# Altium schematic symbol library NG2092.SchLib: 31 symbols (part 1 of 2)
Pins are listed as number, name and electrical type; pins without a type are passive.

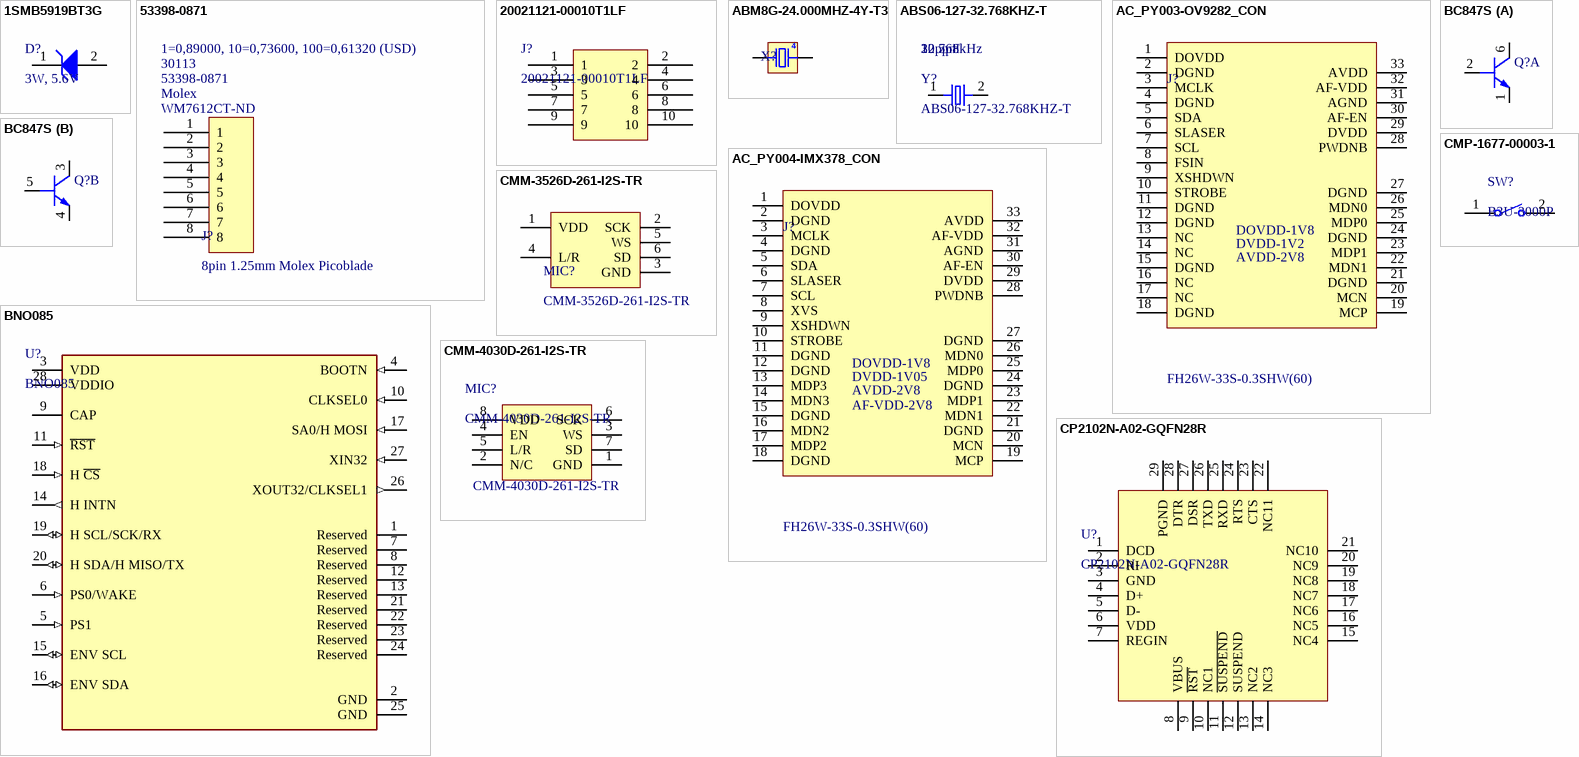
[diagram p0: symbols 1SMB5919BT3G to CP2102N-A02-GQFN28R]

## 1SMB5919BT3G
designator D?, comment 3W, 5.6V
DIODE ZENER 5.6V 3W SMB; Manufacturer 1: ON Semiconductor; Manufacturer Part Number 1: 1SMB5919BT3G; Material: Plastic; Tolerance: 5%; Max Reverse Leakage Current: 5uA; Impedance: 2R; Element Configuration: Single; Forward Voltage: 1.5V; Power Dissipation: 550mW; Zener Current: 267mA; Test Current: 66.9mA; Breakdown Voltage: 5.88V; ESD Protection: Yes; Supplier 1: Digi-Key; RoHS: Yes; Category: Zener Diodes; Stock 1: 59012; Pricing 1: 2500=0.08908, 5000=0.08384, 12500=0.07860, 25000=0.07598, 62500=0.07074 (USD); Case/Package: SMB; Number of Pins: 2; Contact Plating: Tin,Matte; Min Operating Temperature: -65°C; Max Operating Temperature: 150°C; Package Quantity: 1; Packaging: Tape and Reel; Max Power Dissipation: 3W; Voltage Tolerance: 5%; Zener Voltage: 5.6V; Working Voltage: 5.6V; Peak Reverse Current: 5uA; Voltage Rating (DC): 5.6V; Power Rating: 3W; Height: 2.13mm; Width: 3.56mm; Radiation Hardening: No; Lead Free: Lead Free; Halogen Free: Halogen Free; REACH SVHC: No SVHC; ComponentLink1URL: https://datasheet.ciiva.com/27747/1308331-27747654.pdf?src-supplier=Jameco; ComponentLink1Description: https://datasheet.ciiva.com/27747/1308331-27747654.pdf?src-supplier=Jameco; ComponentLink2URL: https://datasheet.ciiva.com/1182/1smb5913bt3-d-1182657.pdf?src-supplier=Element14; ComponentLink2Description: https://datasheet.ciiva.com/1182/1smb5913bt3-d-1182657.pdf?src-supplier=Element14; ComponentLink3URL: https://datasheet.ciiva.com/1182/1smb5913bt3-d-1182658.pdf?src-supplier=Element14; ComponentLink3Description: https://datasheet.ciiva.com/1182/1smb5913bt3-d-1182658.pdf?src-supplier=Element14; ComponentLink4URL: https://datasheet.ciiva.com/895/1smb5913bt3-d-895203.pdf?src-supplier=Digi-Key; ComponentLink4Description: https://datasheet.ciiva.com/895/1smb5913bt3-d-895203.pdf?src-supplier=Digi-Key; ComponentLink5URL: https://datasheet.ciiva.com/895/1smb5913bt3-d-895204.pdf?src-supplier=Digi-Key; ComponentLink5Description: https://datasheet.ciiva.com/895/1smb5913bt3-d-895204.pdf?src-supplier=Digi-Key; ComponentLink6URL: https://datasheet.ciiva.com/895/1smb5913bt3-d-895205.pdf?src-supplier=Digi-Key; ComponentLink6Description: https://datasheet.ciiva.com/895/1smb5913bt3-d-895205.pdf?src-supplier=Digi-Key; ComponentLink7URL: https://datasheet.ciiva.com/15198/getdatasheetpartid-311040-15198695.pdf?src-supplier=Verical; ComponentLink7Description: https://datasheet.ciiva.com/15198/getdatasheetpartid-311040-15198695.pdf?src-supplier=Verical; ComponentLink8URL: https://datasheet.ciiva.com/16311/1smb5913bt3-d-16311847.pdf?src-supplier=Future+Electronics; ComponentLink8Description: https://datasheet.ciiva.com/16311/1smb5913bt3-d-16311847.pdf?src-supplier=Future+Electronics; ComponentLink9URL: https://datasheet.ciiva.com/16472/1smb5913bt3-d-16472779.pdf?src-supplier=Avnet+Asia; ComponentLink9Description: https://datasheet.ciiva.com/16472/1smb5913bt3-d-16472779.pdf?src-supplier=Avnet+Asia; Supplier 2: Avnet; Supplier 3: Newark; Supplier 4: LCSC; Supplier 5: Avnet Europe; Supplier Part Number 1: 1SMB5919BT3GOSTR-ND; Supplier Part Number 3: 67R1406; Supplier Part Number 4: C70260; Supplier Part Number 5: 1SMB5919BT3G; Supplier Part Number 2: 1SMB5919BT3G
footprint 1SMB5919BT3G (Molded, 2-Leads, Body 4.6x3.95mm)
pins: 1 K, 2 A

## 53398-0871
designator J?, comment 8pin 1.25mm Molex Picoblade  Supplier Part Number 1: WM7612CT-ND  Manufacturer 1: Molex  Manufacturer Part Number 1: 53398-0871  Stock 1: 30113  Pricing 1: 1=0,89000, 10=0,73600, 100=0,61320 (USD)
CONN HEADER VERT 8POS 1.25MM  Connector Header SMD 8 position 0.049" (1.25mm); Connector Type: BOARD CONNECTOR; Option: General Purpose; Filter Feature: No; Mating Information: MULTIPLE MATING PARTS AVAILABLE; Number of Rows Loaded: 1; Number of Contacts: 8; Body/Shell Style: RECEPTACLE; Contact Pattern: RECTANGULAR; Contact Resistance: 20mR; Contact Style: Blade Pin; Dielectric Withstanding Voltage (AC): 250V; Insulation Resistance: 100MR; Polarization Key: POLARIZED HOUSING; Rated Current (Signal): 1A; Board Mounting Option: SOLDER HOLDING POSTS; Durability: 30Cycles; Body Breadth: 0.146inch; Body Depth: 0.185inch; Body Length: 0.581inch; Mating Contact Pitch: 0.049inch; Mounting Option 1: LOCKING; Plating Thickness: 39uin; Reference Standard: UL; Reliability: COMMERCIAL; Supplier 1: Digi-Key; RoHS: Yes; Category: Headers and Wire Housings; Mount: Board; Contact Finish - Mating: MATTE TIN (39) OVER NICKEL; Contact Finish - Termination: Matte Tin (Sn) - with Nickel (Ni) barrier; Insulation Material: Nylon; Contact Material: Bronze; Insulation Color: Natural; Min Operating Temperature: -40°C; Max Operating Temperature: 85°C; Contact Gender: Male; Mixed Contacts: No; Mounting Style: STRAIGHT; Termination: SMD/SMT; JESD-609 Code: e3; Number Of Connectors: 1; Number Of PCB Rows: 1; PCB Contact Pattern: RECTANGULAR; Terminal Pitch: 1.25mm; Flammability Rating: UL94 V-0; DIN Conformance: No; IEC Conformance: No; MIL Conformance: No; REACH SVHC: Yes; RoHS Compliant: Yes; ComponentLink1URL: https://datasheet.ciiva.com:443/pdfs/VipMasterIC/IC/MOLE/MOLE-S-A0005942615/MOLE-S-A0005942615-1.pdf?src-supplier=IHS+Markit; ComponentLink1Description: https://datasheet.ciiva.com:443/pdfs/VipMasterIC/IC/MOLE/MOLE-S-A0005942615/MOLE-S-A0005942615-1.pdf?src-supplier=IHS+Markit; ComponentLink2URL: https://datasheet.ciiva.com/5149/0533980871-pcb-headers-146617-5149937.pdf?src-supplier=Mouser; ComponentLink2Description: https://datasheet.ciiva.com/5149/0533980871-pcb-headers-146617-5149937.pdf?src-supplier=Mouser; ComponentLink3URL: https://datasheet.ciiva.com/11748/0900766b80ab946a-11748897.pdf?src-supplier=RSComponents; ComponentLink3Description: https://datasheet.ciiva.com/11748/0900766b80ab946a-11748897.pdf?src-supplier=RSComponents; ComponentLink4URL: https://datasheet.ciiva.com/36525/1302220-36525970.pdf?src-supplier=Jameco; ComponentLink4Description: https://datasheet.ciiva.com/36525/1302220-36525970.pdf?src-supplier=Jameco; ComponentLink5URL: https://datasheet.ciiva.com/6083/1632066-6083006.pdf?src-supplier=Farnell; ComponentLink5Description: https://datasheet.ciiva.com/6083/1632066-6083006.pdf?src-supplier=Farnell; ComponentLink6URL: https://datasheet.ciiva.com/7683/1867383-7683797.pdf?src-supplier=Element14; ComponentLink6Description: https://datasheet.ciiva.com/7683/1867383-7683797.pdf?src-supplier=Element14; ComponentLink7URL: https://datasheet.ciiva.com/14156/gf116833-116846-e-14156249.pdf?src-supplier=Distrelec; ComponentLink7Description: https://datasheet.ciiva.com/14156/gf116833-116846-e-14156249.pdf?src-supplier=Distrelec; ComponentLink8URL: https://datasheet.ciiva.com/7683/1632066-7683911.pdf?src-supplier=Element14; ComponentLink8Description: https://datasheet.ciiva.com/7683/1632066-7683911.pdf?src-supplier=Element14; ComponentLink9URL: https://datasheet.ciiva.com/9468/0533980871-pcb-headers-9468298.pdf?src-supplier=Avnet; ComponentLink9Description: https://datasheet.ciiva.com/9468/0533980871-pcb-headers-9468298.pdf?src-supplier=Avnet; ComponentLink10URL: https://datasheet.ciiva.com/30196/226800533980871-pcb-headers-30196122.pdf?src-supplier=Onlinecomponents.com; ComponentLink10Description: https://datasheet.ciiva.com/30196/226800533980871-pcb-headers-30196122.pdf?src-supplier=Onlinecomponents.com
footprint MOLEX: 53398-0871 (SMD Connector; Wafer; 8 Position, Vertical)
pins: 1, 2, 3, 4, 5, 6, 7, 8, 9 hidden, 10 hidden

## 20021121-00010T1LF
designator J?
CONN HEADER SMD 10POS 1.27MM; Manufacturer 1: Amphenol FCI; Number of Contacts: 10; Contact Resistance: 30mR; Max Voltage Rating (AC): 125V; Connector Type: Male Pin; Row Spacing: 0.05inch; Supplier 1: Digi-Key; Manufacturer Part Number 1: 20021121-00010T1LF; Stock 1: 1465; Pricing 1: 1=0.77000, 10=0.71800, 100=0.55040, 500=0.47860, 1000=0.39485, 5000=0.34699, 10000=0.32306 (USD); RoHS: Yes; Mount: Surface Mount; Contact Plating: Gold; Color: Black; Contact Material: Copper Alloy; Housing Color: Black; Housing Material: Thermoplastic; Min Operating Temperature: -40°C; Max Operating Temperature: 85°C; Number of Rows: 2; Termination: Solder; Package Quantity: 93; Packaging: Rail/Tube; Number of Positions: 10; Orientation: Straight; Pitch: 1.27mm; Contact Mating Length: 0.12inch; Depth: 3.4mm; ComponentLink1URL: https://datasheet.ciiva.com/18659/20021121-18659066.pdf?src-supplier=Digi-Key; ComponentLink1Description: https://datasheet.ciiva.com/18659/20021121-18659066.pdf?src-supplier=Digi-Key; ComponentLink2URL: https://datasheet.ciiva.com/10033/20021121-10033582.pdf?src-supplier=Avnet; ComponentLink2Description: https://datasheet.ciiva.com/10033/20021121-10033582.pdf?src-supplier=Avnet; Supplier Part Number 1: 609-6529-ND
footprint 20021121-00010T1LF (Connector Header Surface Mount 10 position 0.050" (1.27mm)   Contact length: 0.120" (3.05mm))
pins: 1, 2, 3, 4, 5, 6, 7, 8, 9, 10

## ABM8G-24.000MHZ-4Y-T3
designator X?, comment 24MHz  (value not drawn)
CRYSTAL 24.0000MHZ 10PF SMD; Manufacturer 1: Abracon; Manufacturer Part Number 1: ABM8G-24.000MHZ-4Y-T3; Supplier 1: Digi-Key; RoHS: Yes; Category: Crystals; ComponentLink1URL: https://datasheet.ciiva.com/854/abm8g-854913.pdf?src-supplier=Digi-Key; ComponentLink1Description: https://datasheet.ciiva.com/854/abm8g-854913.pdf?src-supplier=Digi-Key; ComponentLink2URL: https://datasheet.ciiva.com/854/abm8g-854911.pdf?src-supplier=Digi-Key; ComponentLink2Description: https://datasheet.ciiva.com/854/abm8g-854911.pdf?src-supplier=Digi-Key; ComponentLink3URL: https://datasheet.ciiva.com/854/abm8g-854912.pdf?src-supplier=Digi-Key; ComponentLink3Description: https://datasheet.ciiva.com/854/abm8g-854912.pdf?src-supplier=Digi-Key; Supplier Part Number 1: 535-10913-1-ND; Stock 1: 4722; Pricing 1: 1=0,67000, 10=0,59600, 50=0,55720, 100=0,49250, 500=0,46656, 1000=0,38880 (USD)
footprint MCSJK-7U-24.00-12-30-60-B-30
pins: 1 OSC1, 2 GND hidden, 3 OSC2, 4 GND hidden

## ABS06-127-32.768KHZ-T
designator Y?  Frequency Tolerance: 20ppm  Load Capacitance: 12.5pF  Frequency: 32.768kHz
CRYSTAL 32.768kHz ±20ppm Crystal 12.5pF 90 kOhms 2-SMD, No Lead; Manufacturer 1: Abracon; ESR (Equivalent Series Resistance): 90kR; Supplier 1: Digi-Key; Manufacturer Part Number 1: ABS06-127-32.768KHZ-T; RoHS: Yes; Stock 1: 1640; Pricing 1: 1=0.69000, 10=0.60700, 50=0.56760, 100=0.50160, 500=0.47520, 1000=0.39600 (USD); Mount: Surface Mount; Case/Package: SMD/SMT; Min Operating Temperature: -40°C; Max Operating Temperature: 85°C; Packaging: Tape and Reel; ComponentLink1URL: http://www.farnell.com/datasheets/2614114.pdf?src-supplier=Farnell; ComponentLink1Description: http://www.farnell.com/datasheets/2614114.pdf?src-supplier=Farnell; ComponentLink2URL: https://abracon.com/datasheets/ABS06-127-32.768kHz-T.pdf?src-supplier=Digi-Key; ComponentLink2Description: https://abracon.com/datasheets/ABS06-127-32.768kHz-T.pdf?src-supplier=Digi-Key; ComponentLink3URL: http://www.farnell.com/datasheets/2614114.pdf?src-supplier=Newark; ComponentLink3Description: http://www.farnell.com/datasheets/2614114.pdf?src-supplier=Newark; Supplier 2: Digi-Key; Supplier 3: Mouser; Supplier 4: Verical; Supplier Part Number 1: 535-14513-1-ND; Supplier Part Number 2: 535-14513-6-ND; Supplier Part Number 3: 815-ABS0612732.768KT; Supplier Part Number 4: ABS06-127-32.768KHZ-T
footprint ABS06-127-32.768KHZ-T (2-SMD 0.079" L x 0.047" W (2.00mm x 1.20mm))
pins: 1, 2

## AC_PY003-OV9282_CON
designator J?, comment FH26W-33S-0.3SHW(60)
FFC/FPC Connector, 33 Contact(s), 1 Row(s), Female, Right Angle, Surface Mount Terminal; Manufacturer 1: Hirose; Supplier 1: Digi-Key; Manufacturer Part Number 1: FH26W-33S-0.3SHW(60); RoHS: Yes; Category: FFC / FPC; Stock 1: 627; Pricing 1: 1=1,78000, 10=1,61700, 25=1,51800, 50=1,45200, 100=1,38600, 250=1,25400, 500=1,15500, 1000=0,99000, 2500=0,92400 (USD); ComponentLink1URL: https://datasheet.ciiva.com:443/pdfs/VipMasterIC/IC/HIRO/HIRO-S-A0007913874/HIRO-S-A0008593114-1.pdf?src-supplier=IHS+Markit; ComponentLink1Description: https://datasheet.ciiva.com:443/pdfs/VipMasterIC/IC/HIRO/HIRO-S-A0007913874/HIRO-S-A0008593114-1.pdf?src-supplier=IHS+Markit; ComponentLink2URL: https://www.hirose.com/product/en/download_file/key_name/FH26/category/Catalog/doc_file_id/49355/?file_category_id=4&item_id=298&is_series=1&src-supplier=Digi-Key; ComponentLink2Description: https://www.hirose.com/product/en/download_file/key_name/FH26/category/Catalog/doc_file_id/49355/?file_category_id=4&item_id=298&is_series=1&src-supplier=Digi-Key; ComponentLink3URL: https://www.hirose.com/product/download/?distributor=digikey&amp;type=2d&amp;lang=en&amp;num=FH26W-13S-0.3SHW(60)&src-supplier=Digi-Key; ComponentLink3Description: https://www.hirose.com/product/download/?distributor=digikey&amp;type=2d&amp;lang=en&amp;num=FH26W-13S-0.3SHW(60)&src-supplier=Digi-Key; Supplier Part Number 1: H125800CT-ND
footprint AC-PY003-OV9282 (connector: FH26W-33S-0.3SHW)
pins: 1 DOVDD, 2 DGND, 3 MCLK, 4 DGND, 5 SDA, 6 SLASER, 7 SCL, 8 FSIN, 9 XSHDWN, 10 STROBE, 11 DGND, 12 DGND, 13 NC, 14 NC, 15 DGND, 16 NC, 17 NC, 18 DGND, 19 MCP, 20 MCN, 21 DGND, 22 MDN1, 23 MDP1, 24 DGND, 25 MDP0, 26 MDN0, 27 DGND, 28 PWDNB, 29 DVDD, 30 AF-EN, 31 AGND, 32 AF-VDD, 33 AVDD
text: DOVDD-1V8; DVDD-1V2; AVDD-2V8

## AC_PY004-IMX378_CON
designator J?, comment FH26W-33S-0.3SHW(60)
FFC/FPC Connector, 33 Contact(s), 1 Row(s), Female, Right Angle, Surface Mount Terminal; Manufacturer 1: Hirose; Supplier 1: Digi-Key; Manufacturer Part Number 1: FH26W-33S-0.3SHW(60); RoHS: Yes; Category: FFC / FPC; Stock 1: 627; Pricing 1: 1=1,78000, 10=1,61700, 25=1,51800, 50=1,45200, 100=1,38600, 250=1,25400, 500=1,15500, 1000=0,99000, 2500=0,92400 (USD); ComponentLink1URL: https://datasheet.ciiva.com:443/pdfs/VipMasterIC/IC/HIRO/HIRO-S-A0007913874/HIRO-S-A0008593114-1.pdf?src-supplier=IHS+Markit; ComponentLink1Description: https://datasheet.ciiva.com:443/pdfs/VipMasterIC/IC/HIRO/HIRO-S-A0007913874/HIRO-S-A0008593114-1.pdf?src-supplier=IHS+Markit; ComponentLink2URL: https://www.hirose.com/product/en/download_file/key_name/FH26/category/Catalog/doc_file_id/49355/?file_category_id=4&item_id=298&is_series=1&src-supplier=Digi-Key; ComponentLink2Description: https://www.hirose.com/product/en/download_file/key_name/FH26/category/Catalog/doc_file_id/49355/?file_category_id=4&item_id=298&is_series=1&src-supplier=Digi-Key; ComponentLink3URL: https://www.hirose.com/product/download/?distributor=digikey&amp;type=2d&amp;lang=en&amp;num=FH26W-13S-0.3SHW(60)&src-supplier=Digi-Key; ComponentLink3Description: https://www.hirose.com/product/download/?distributor=digikey&amp;type=2d&amp;lang=en&amp;num=FH26W-13S-0.3SHW(60)&src-supplier=Digi-Key; Supplier Part Number 1: H125800CT-ND
footprint AC-PY004-IMX378 (connector: FH26W-33S-0.3SHW)
pins: 1 DOVDD, 2 DGND, 3 MCLK, 4 DGND, 5 SDA, 6 SLASER, 7 SCL, 8 XVS, 9 XSHDWN, 10 STROBE, 11 DGND, 12 DGND, 13 MDP3, 14 MDN3, 15 DGND, 16 MDN2, 17 MDP2, 18 DGND, 19 MCP, 20 MCN, 21 DGND, 22 MDN1, 23 MDP1, 24 DGND, 25 MDP0, 26 MDN0, 27 DGND, 28 PWDNB, 29 DVDD, 30 AF-EN, 31 AGND, 32 AF-VDD, 33 AVDD
text: DOVDD-1V8; DVDD-1V05; AVDD-2V8; AF-VDD-2V8

## BC847S
designator Q?  (value not drawn)
BC847S Series NPN 45 V 100 mA Silicon AF Transistor Array - SOT-363-6; Manufacturer 1: Infineon; Collector Emitter Voltage (VCEO): 45V; Max Power Dissipation: 250mW; Max Collector Current: 100mA; Collector Base Voltage (VCBO): 50V; Emitter Base Voltage (VEBO): 6V; hFE Min: 200; Collector Emitter Saturation Voltage: 600mV; Max Frequency: 250MHz; Supplier 1: Digi-Key; Manufacturer Part Number 1: BC847S; RoHS: Yes; Category: MOSFETs; Stock 1: 132000; Pricing 1: 3000=0.06565, 6000=0.05679, 15000=0.04709, 30000=0.04626, 75000=0.04155, 150000=0.03601 (USD); Case/Package: SOT; Number of Pins: 6; Max Operating Temperature: 150°C; Packaging: Tape and Reel; Polarity: NPN; Voltage: 45V; Height: 0.8mm; Width: 1.25mm; Halogen Free: Halogen Free; ComponentLink1URL: https://datasheet.ciiva.com/29323/153224-da-01-en-transistor-af-bc847s-sot-363-inf-29323690.pdf?src-supplier=Conrad; ComponentLink1Description: https://datasheet.ciiva.com/29323/153224-da-01-en-transistor-af-bc847s-sot-363-inf-29323690.pdf?src-supplier=Conrad; Supplier 2: Digi-Key; Supplier 3: Future Electronics; Supplier 4: Mouser; Supplier Part Number 1: BC847SH6327XTSA1TR-ND; Supplier Part Number 3: BC847SH6327XTSA1-REEL; Supplier Part Number 4: 726-BC847SH6327; Supplier Part Number 2: BC847SH6327XTSA1CT-ND
footprint BC847S (SOT363, 6-Leads, Body 2.4x2.2mm (max), Pitch 0.65mm, IPC Medium Density)
part A pins: 1 E1, 2 B1, 6 C1
part B pins: 3 C2, 4 E2, 5 B2

## BNO085
designator U?
IMU ACCEL/GYRO/MAG I2C 32BIT; Manufacturer 1: Hillcrest Laboratories; Sensor Type: Accelerometer,Gyroscope,Magnetometer; Output Type: SPI,I2C; Supplier 1: Digi-Key; Manufacturer Part Number 1: BNO085; RoHS: No; Category: Inertial Measurement Units (IMUs); Stock 1: 11593; Pricing 1: 1=11.85000, 5=10.31200, 10=9.28100, 25=8.25000, 50=7.63120, 100=6.60000, 500=6.18750, 1000=5.77500 (USD); Mount: Surface Mount; Case/Package: LGA; Min Operating Temperature: -40°C; Max Operating Temperature: 85°C; Packaging: Tape and Reel; ComponentLink1URL: https://www.hillcrestlabs.com/downloads/bno080-datasheet?src-supplier=Digi-Key; ComponentLink1Description: https://www.hillcrestlabs.com/downloads/bno080-datasheet?src-supplier=Digi-Key; ComponentLink2URL: https://www.hillcrestlabs.com/downloads/bno080-migration-guide?src-supplier=Digi-Key; ComponentLink2Description: https://www.hillcrestlabs.com/downloads/bno080-migration-guide?src-supplier=Digi-Key; Supplier Part Number 1: 1888-1006-1-ND
footprint BNO085 (28-TFLGA Module (5.2x3.8))
pins: 1 Reserved, 2 GND (power), 3 VDD (power), 4 BOOTN (in), 5 PS1 (in), 6 PS0/WAKE (in), 7 Reserved, 8 Reserved, 9 CAP, 10 CLKSEL0 (in), 11 ~{RST} (in), 12 Reserved, 13 Reserved, 14 H INTN (out), 15 ENV SCL (io), 16 ENV SDA (io), 17 SA0/H MOSI (in), 18 H ~{CS} (in), 19 H SCL/SCK/RX (io), 20 H SDA/H MISO/TX (io), 21 Reserved, 22 Reserved, 23 Reserved, 24 Reserved, 25 GND (power), 26 XOUT32/CLKSEL1 (out), 27 XIN32 (in), 28 VDDIO (power)

## CMM-3526D-261-I2S-TR
designator MIC?
3.5 x 2.65 mm, Omnidirectional, Bottom Port, Surface Mount, 2.6 V, -26 ±1 dB, I²S, MEMS Microphone; Manufacturer 1: CUI Devices; Description: Consumer IC; Supplier 1: Digi-Key; RoHS: No; Category: Microphones; Supplier Part Number 1: 2223-CMM-3526D-261-I2S-CT-ND; Manufacturer Part Number 1: CMM-3526D-261-I2S-TR; Stock 1: 785; Pricing 1: 1=2,59000, 10=2,14900, 25=1,98440, 50=1,86440, 100=1,74900, 500=1,51620 (USD)
footprint CMM-3526D-261-I2S-TR
pins: 1 VDD, 2 SCK, 3 GND, 4 L/R, 5 WS, 6 SD

## CMM-4030D-261-I2S-TR
designator MIC?
100Hz ~ 10kHz Digital, I²S Microphone MEMS (Silicon) 1.6V ~ 3.6V Omnidirectional (-26dB ±1dB) Solder Pads; Manufacturer: CUI Devices; Supplier 1: Mouser; RoHS: No; Supplier Part Number 1: 490-CMM4030D261I2STR; Manufacturer Part Number: CMM-4030D-261-I2S-TR
footprint CMM-4030D-261-I2S-TR (I2S MEMS MIC 4.00mm x 2.65mm)
pins: 1 GND, 2 N/C, 3 WS, 4 EN, 5 L/R, 6 SCK, 7 SD, 8 VDD

## CMP-1677-00003-1
designator SW?, comment B3U-3000P
Keypad Switch, 1 Switches, SPST, Momentary-tactile, 0.05A, 12VDC, 2.08N, Solder Terminal, Surface Mount-right Angle; Manufacturer 1: Omron; Supplier 1: Digi-Key; RoHS: Yes; Category: Tactile Switches; ComponentLink1URL: https://datasheet.ciiva.com:443/pdfs/VipMasterIC/IC/OMRN/OMRN-S-A0001309783/OMRN-S-A0001309783-1.pdf?src-supplier=IHS+Markit; ComponentLink1Description: https://datasheet.ciiva.com:443/pdfs/VipMasterIC/IC/OMRN/OMRN-S-A0001309783/OMRN-S-A0001309783-1.pdf?src-supplier=IHS+Markit; ComponentLink2URL: https://datasheet.ciiva.com/1634/60838-1634400.pdf?src-supplier=Farnell; ComponentLink2Description: https://datasheet.ciiva.com/1634/60838-1634400.pdf?src-supplier=Farnell; ComponentLink3URL: https://datasheet.ciiva.com/2900/b3u-1110-2900035.pdf?src-supplier=Digi-Key; ComponentLink3Description: https://datasheet.ciiva.com/2900/b3u-1110-2900035.pdf?src-supplier=Digi-Key; ComponentLink4URL: https://datasheet.ciiva.com/2900/b3u-1110-2900036.pdf?src-supplier=Digi-Key; ComponentLink4Description: https://datasheet.ciiva.com/2900/b3u-1110-2900036.pdf?src-supplier=Digi-Key; ComponentLink5URL: https://datasheet.ciiva.com/2900/b3u-1110-2900037.pdf?src-supplier=Digi-Key; ComponentLink5Description: https://datasheet.ciiva.com/2900/b3u-1110-2900037.pdf?src-supplier=Digi-Key; ComponentLink6URL: https://datasheet.ciiva.com/1532/60838-1532682.pdf?src-supplier=Element14; ComponentLink6Description: https://datasheet.ciiva.com/1532/60838-1532682.pdf?src-supplier=Element14; ComponentLink7URL: https://datasheet.ciiva.com/16863/70176037-16863994.pdf?src-supplier=Allied+Electronics; ComponentLink7Description: https://datasheet.ciiva.com/16863/70176037-16863994.pdf?src-supplier=Allied+Electronics; ComponentLink8URL: https://datasheet.ciiva.com/14142/b3u-eng-datasheet-14142542.pdf?src-supplier=Distrelec; ComponentLink8Description: https://datasheet.ciiva.com/14142/b3u-eng-datasheet-14142542.pdf?src-supplier=Distrelec; ComponentLink9URL: https://datasheet.ciiva.com/30158/en-b3u-30158606.pdf?src-supplier=Onlinecomponents.com; ComponentLink9Description: https://datasheet.ciiva.com/30158/en-b3u-30158606.pdf?src-supplier=Onlinecomponents.com; Manufacturer Part Number 1: B3U-3000P; Stock 1: 20017; Pricing 1: 1=0,96000, 10=0,92700, 25=0,86640, 100=0,75220, 250=0,68448, 500=0,63456, 1000=0,62388 (USD); Supplier Part Number 1: SW1022CT-ND
footprint OMRON-B3U-3000P_V (SMD, 2-Leads, Body 4x3.2mm)
pins: 1, 2

## CP2102N-A02-GQFN28R
designator U?
IC USB TO UART BRIDGE QFN28; Manufacturer 1: Silicon Labs; Supplier 1: Digi-Key; Manufacturer Part Number 1: CP2102N-A02-GQFN28R; RoHS: Yes; Stock 1: 3731; Pricing 1: 1=1.40000, 25=1.35160, 100=1.29950 (USD); Supplier 2: Digi-Key; Supplier 3: Mouser; Supplier 4: Verical; Supplier Part Number 1: 336-5890-1-ND; Supplier Part Number 2: 336-5890-2-ND; Supplier Part Number 3: 634-CP2102NA02QFN28R; Supplier Part Number 4: CP2102N-A02-GQFN28R
footprint CP2102N-A02-GQFN28R (QFN, 28-Leads, Body 5.00x5.00mm, Pitch 0.50mm, Thermal Pad 3.15x3.15mm, IPC Medium Density)
pins: 1 DCD "Clear To Send Control Input / Handshake Signal.", 2 RI "Clear To Send Control Input / Handshake Signal.", 3 GND (power) "Clear To Send Control Input / Handshake Signal.", 4 D+ "Clear To Send Control Input / Handshake Signal.", 5 D- "Clear To Send Control Input / Handshake Signal.", 6 VDD (power) "Clear To Send Control Input / Handshake Signal.", 7 REGIN "Clear To Send Control Input / Handshake Signal.", 8 VBUS (power) "Clear To Send Control Input / Handshake Signal.", 9 ~{RST} "Clear To Send Control Input / Handshake Signal.", 10 NC1 "Clear To Send Control Input / Handshake Signal.", 11 ~{SUSPEND} "Clear To Send Control Input / Handshake Signal.", 12 SUSPEND "Clear To Send Control Input / Handshake Signal.", 13 NC2 "Clear To Send Control Input / Handshake Signal.", 14 NC3 "Clear To Send Control Input / Handshake Signal.", 15 NC4 "Clear To Send Control Input / Handshake Signal.", 16 NC5 "Clear To Send Control Input / Handshake Signal.", 17 NC6 "Clear To Send Control Input / Handshake Signal.", 18 NC7 "Clear To Send Control Input / Handshake Signal.", 19 NC8 "Clear To Send Control Input / Handshake Signal.", 20 NC9 "Clear To Send Control Input / Handshake Signal.", 21 NC10 "Clear To Send Control Input / Handshake Signal.", 22 NC11 "Clear To Send Control Input / Handshake Signal.", 23 CTS "Clear To Send Control Input / Handshake Signal.", 24 RTS "Clear To Send Control Input / Handshake Signal.", 25 RXD "Clear To Send Control Input / Handshake Signal.", 26 TXD "Clear To Send Control Input / Handshake Signal.", 27 DSR "Clear To Send Control Input / Handshake Signal.", 28 DTR "Clear To Send Control Input / Handshake Signal.", 29 PGND "Clear To Send Control Input / Handshake Signal."

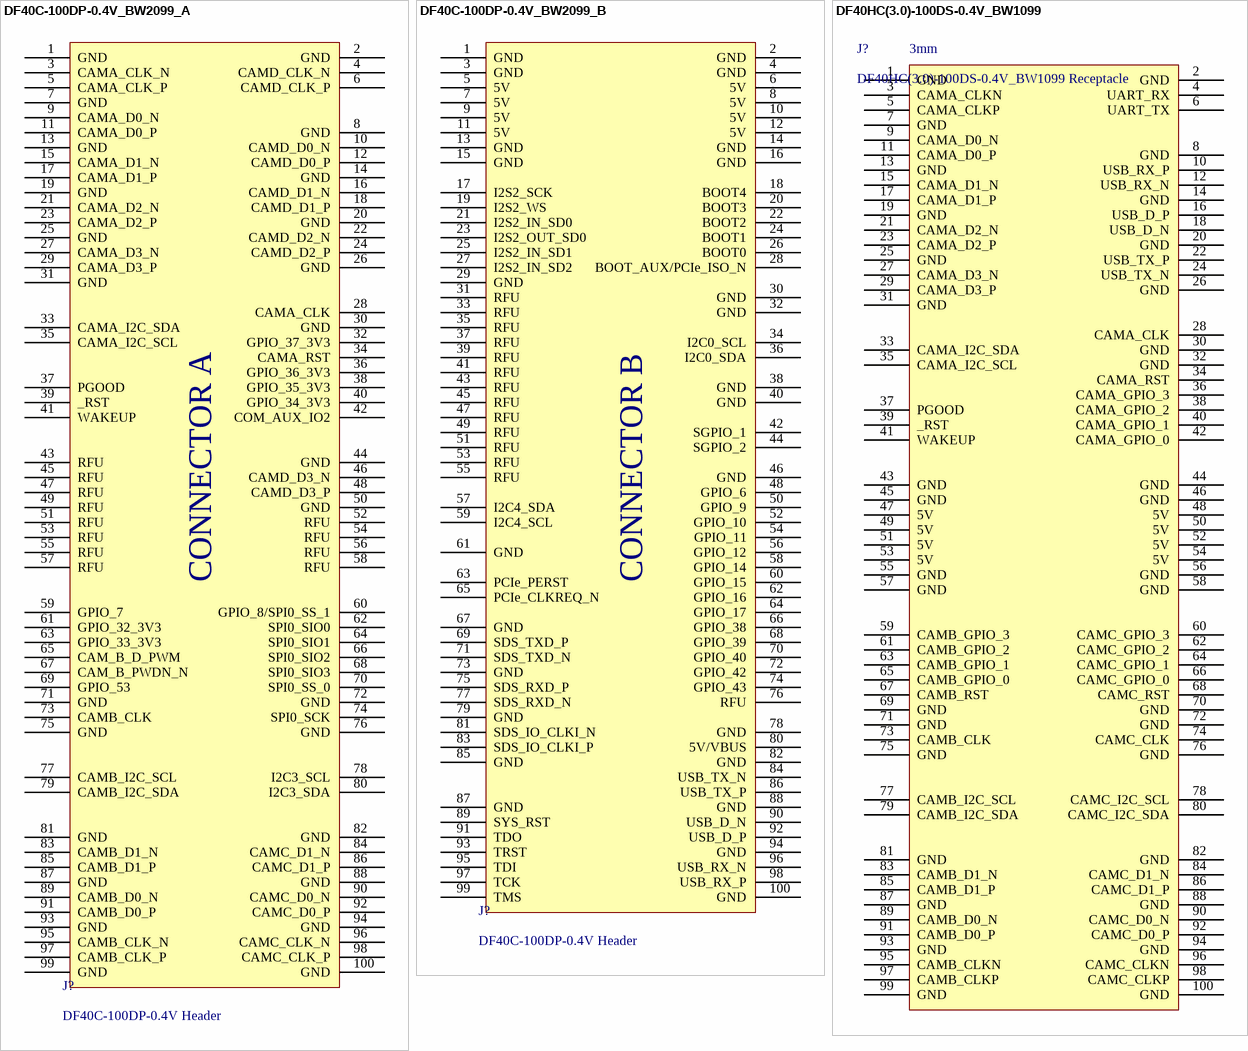
[diagram p1: symbols DF40C-100DP-0.4V_BW2099_A to DF40HC(3.0)-100DS-0.4V_BW1099]

## DF40C-100DP-0.4V_BW2099_A
designator J?, comment DF40C-100DP-0.4V Header
CONN HDR 100POS 0.4MM SMD GOLD BW2099 SYMBOL; Manufacturer 1: Hirose; Manufacturer Part Number 1: DF40HC(3.0)-100DS-0.4V(51; pin_current: 0.3A; Voltage Rating: 30V; Connector Type: Receptacle; Number of Positions: 100; Stack Height: 1.5mm; pin_pitch: 0.4mm; mfg_pn: DF40C-100DP-0.4V; Supplier 1: Digi-Key; Stock 1: 2172; Pricing 1: 1=2.54000, 10=2.26000, 25=2.07000, 50=2.07000, 100=1.98000, 250=1.79000, 500=1.65000, 1000=1.41000, 3000=1.32000, 6000=1.23000, 10000=1.23000 (USD); RoHS: Yes; Mount: Surface Mount; Contact Plating: Gold; Min Operating Temperature: -35°C; Max Operating Temperature: 85°C; Number of Rows: 2; Termination: SMD/SMT; Package Quantity: 1000; Packaging: Tape and Reel; Orientation: Straight; Pitch: 0.4mm; Radiation Hardening: No; REACH SVHC: Unknown; Lead Free: Lead Free; ComponentLink1URL: https://datasheet.ciiva.com/46636/ed-df40-20140305-46636517.pdf?src-supplier=Digi-Key; ComponentLink1Description: https://datasheet.ciiva.com/46636/ed-df40-20140305-46636517.pdf?src-supplier=Digi-Key; ComponentLink2URL: https://datasheet.ciiva.com/18562/ed-df40-20140305-18562189.pdf?src-supplier=Digi-Key; ComponentLink2Description: https://datasheet.ciiva.com/18562/ed-df40-20140305-18562189.pdf?src-supplier=Digi-Key; ComponentLink3URL: https://datasheet.ciiva.com/13559/ed-df40-20140305-13559540.pdf?src-supplier=Mouser; ComponentLink3Description: https://datasheet.ciiva.com/13559/ed-df40-20140305-13559540.pdf?src-supplier=Mouser; ComponentLink4URL: https://datasheet.ciiva.com/18562/ed-df40-20140305-18562462.pdf?src-supplier=Digi-Key; ComponentLink4Description: https://datasheet.ciiva.com/18562/ed-df40-20140305-18562462.pdf?src-supplier=Digi-Key; Supplier Part Number 1: 798-DF40HC30100DS451; Supplier 2: Mouser; Supplier Part Number 2: 798-DF40HC30100DS458; Manufacturer 2: Hirose; Manufacturer Part Number 2: DF40HC(3.0)-100DS-0.4V(58)
footprint CON_BW2099_A
pins: 1 GND, 2 GND, 3 CAMA_CLK_N, 4 CAMD_CLK_N, 5 CAMA_CLK_P, 6 CAMD_CLK_P, 7 GND, 8 GND, 9 CAMA_D0_N, 10 CAMD_D0_N, 11 CAMA_D0_P, 12 CAMD_D0_P, 13 GND, 14 GND, 15 CAMA_D1_N, 16 CAMD_D1_N, 17 CAMA_D1_P, 18 CAMD_D1_P, 19 GND, 20 GND, 21 CAMA_D2_N, 22 CAMD_D2_N, 23 CAMA_D2_P, 24 CAMD_D2_P, 25 GND, 26 GND, 27 CAMA_D3_N, 28 CAMA_CLK, 29 CAMA_D3_P, 30 GND, 31 GND, 32 GPIO_37_3V3, 33 CAMA_I2C_SDA, 34 CAMA_RST, 35 CAMA_I2C_SCL, 36 GPIO_36_3V3, 37 PGOOD, 38 GPIO_35_3V3, 39 _RST, 40 GPIO_34_3V3, 41 WAKEUP, 42 COM_AUX_IO2, 43 RFU, 44 GND, 45 RFU, 46 CAMD_D3_N, 47 RFU, 48 CAMD_D3_P, 49 RFU, 50 GND, 51 RFU, 52 RFU, 53 RFU, 54 RFU, 55 RFU, 56 RFU, 57 RFU, 58 RFU, 59 GPIO_7, 60 GPIO_8/SPI0_SS_1, 61 GPIO_32_3V3, 62 SPI0_SIO0, 63 GPIO_33_3V3, 64 SPI0_SIO1, 65 CAM_B_D_PWM, 66 SPI0_SIO2, 67 CAM_B_PWDN_N, 68 SPI0_SIO3, 69 GPIO_53, 70 SPI0_SS_0, 71 GND, 72 GND, 73 CAMB_CLK, 74 SPI0_SCK, 75 GND, 76 GND, 77 CAMB_I2C_SCL, 78 I2C3_SCL, 79 CAMB_I2C_SDA, 80 I2C3_SDA, 81 GND, 82 GND, 83 CAMB_D1_N, 84 CAMC_D1_N, 85 CAMB_D1_P, 86 CAMC_D1_P, 87 GND, 88 GND, 89 CAMB_D0_N, 90 CAMC_D0_N, 91 CAMB_D0_P, 92 CAMC_D0_P, 93 GND, 94 GND, 95 CAMB_CLK_N, 96 CAMC_CLK_N, 97 CAMB_CLK_P, 98 CAMC_CLK_P, 99 GND, 100 GND
text: CONNECTOR A

## DF40C-100DP-0.4V_BW2099_B
designator J?, comment DF40C-100DP-0.4V Header
CONN HDR 100POS 0.4MM SMD GOLD BW2099 SYMBOL; Manufacturer 1: Hirose; Manufacturer Part Number 1: DF40HC(3.0)-100DS-0.4V(51; pin_current: 0.3A; Voltage Rating: 30V; Connector Type: Receptacle; Number of Positions: 100; Stack Height: 1.5mm; pin_pitch: 0.4mm; mfg_pn: DF40C-100DP-0.4V; Supplier 1: Digi-Key; Stock 1: 2172; Pricing 1: 1=2.54000, 10=2.26000, 25=2.07000, 50=2.07000, 100=1.98000, 250=1.79000, 500=1.65000, 1000=1.41000, 3000=1.32000, 6000=1.23000, 10000=1.23000 (USD); RoHS: Yes; Mount: Surface Mount; Contact Plating: Gold; Min Operating Temperature: -35°C; Max Operating Temperature: 85°C; Number of Rows: 2; Termination: SMD/SMT; Package Quantity: 1000; Packaging: Tape and Reel; Orientation: Straight; Pitch: 0.4mm; Radiation Hardening: No; REACH SVHC: Unknown; Lead Free: Lead Free; ComponentLink1URL: https://datasheet.ciiva.com/46636/ed-df40-20140305-46636517.pdf?src-supplier=Digi-Key; ComponentLink1Description: https://datasheet.ciiva.com/46636/ed-df40-20140305-46636517.pdf?src-supplier=Digi-Key; ComponentLink2URL: https://datasheet.ciiva.com/18562/ed-df40-20140305-18562189.pdf?src-supplier=Digi-Key; ComponentLink2Description: https://datasheet.ciiva.com/18562/ed-df40-20140305-18562189.pdf?src-supplier=Digi-Key; ComponentLink3URL: https://datasheet.ciiva.com/13559/ed-df40-20140305-13559540.pdf?src-supplier=Mouser; ComponentLink3Description: https://datasheet.ciiva.com/13559/ed-df40-20140305-13559540.pdf?src-supplier=Mouser; ComponentLink4URL: https://datasheet.ciiva.com/18562/ed-df40-20140305-18562462.pdf?src-supplier=Digi-Key; ComponentLink4Description: https://datasheet.ciiva.com/18562/ed-df40-20140305-18562462.pdf?src-supplier=Digi-Key; Supplier Part Number 1: 798-DF40HC30100DS451; Supplier 2: Mouser; Supplier Part Number 2: 798-DF40HC30100DS458; Manufacturer 2: Hirose; Manufacturer Part Number 2: DF40HC(3.0)-100DS-0.4V(58)
footprint CON_BW2099_B
pins: 1 GND, 2 GND, 3 GND, 4 GND, 5 5V, 6 5V, 7 5V, 8 5V, 9 5V, 10 5V, 11 5V, 12 5V, 13 GND, 14 GND, 15 GND, 16 GND, 17 I2S2_SCK, 18 BOOT4, 19 I2S2_WS, 20 BOOT3, 21 I2S2_IN_SD0, 22 BOOT2, 23 I2S2_OUT_SD0, 24 BOOT1, 25 I2S2_IN_SD1, 26 BOOT0, 27 I2S2_IN_SD2, 28 BOOT_AUX/PCIe_ISO_N, 29 GND, 30 GND, 31 RFU, 32 GND, 33 RFU, 34 I2C0_SCL, 35 RFU, 36 I2C0_SDA, 37 RFU, 38 GND, 39 RFU, 40 GND, 41 RFU, 42 SGPIO_1, 43 RFU, 44 SGPIO_2, 45 RFU, 46 GND, 47 RFU, 48 GPIO_6, 49 RFU, 50 GPIO_9, 51 RFU, 52 GPIO_10, 53 RFU, 54 GPIO_11, 55 RFU, 56 GPIO_12, 57 I2C4_SDA, 58 GPIO_14, 59 I2C4_SCL, 60 GPIO_15, 61 GND, 62 GPIO_16, 63 PCIe_PERST, 64 GPIO_17, 65 PCIe_CLKREQ_N, 66 GPIO_38, 67 GND, 68 GPIO_39, 69 SDS_TXD_P, 70 GPIO_40, 71 SDS_TXD_N, 72 GPIO_42, 73 GND, 74 GPIO_43, 75 SDS_RXD_P, 76 RFU, 77 SDS_RXD_N, 78 GND, 79 GND, 80 5V/VBUS, 81 SDS_IO_CLKI_N, 82 GND, 83 SDS_IO_CLKI_P, 84 USB_TX_N, 85 GND, 86 USB_TX_P, 87 GND, 88 GND, 89 SYS_RST, 90 USB_D_N, 91 TDO, 92 USB_D_P, 93 TRST, 94 GND, 95 TDI, 96 USB_RX_N, 97 TCK, 98 USB_RX_P, 99 TMS, 100 GND
text: CONNECTOR B

## DF40HC(3.0)-100DS-0.4V_BW1099
designator J?, comment DF40HC(3.0)-100DS-0.4V_BW1099 Receptacle  Mated Stacking Heights: 3mm
CONN RCPT 100POS 0.4MM SMD GOLD; Manufacturer 1: Hirose; Manufacturer Part Number 1: DF40HC(3.0)-100DS-0.4V(51; Number of Positions: 100; Pitch: 0.016inch; RoHS: Yes; Mount: Surface Mount; Contact Plating: Gold; Packaging: Tape and Reel; Number of Rows: 2; Package Quantity: 1000; Connector Type: Receptacle; Lead Free: Lead Free; ComponentLink1URL: https://datasheet.ciiva.com/46636/ed-df40-20140305-46636517.pdf?src-supplier=Digi-Key; ComponentLink1Description: https://datasheet.ciiva.com/46636/ed-df40-20140305-46636517.pdf?src-supplier=Digi-Key; ComponentLink2URL: https://datasheet.ciiva.com/18562/ed-df40-20140305-18562189.pdf?src-supplier=Digi-Key; ComponentLink2Description: https://datasheet.ciiva.com/18562/ed-df40-20140305-18562189.pdf?src-supplier=Digi-Key; ComponentLink3URL: https://datasheet.ciiva.com/13559/ed-df40-20140305-13559540.pdf?src-supplier=Mouser; ComponentLink3Description: https://datasheet.ciiva.com/13559/ed-df40-20140305-13559540.pdf?src-supplier=Mouser; ComponentLink4URL: https://datasheet.ciiva.com/18562/ed-df40-20140305-18562462.pdf?src-supplier=Digi-Key; ComponentLink4Description: https://datasheet.ciiva.com/18562/ed-df40-20140305-18562462.pdf?src-supplier=Digi-Key; Supplier 1: Mouser; Stock 1: 2172; Pricing 1: 1=2.54000, 10=2.26000, 25=2.07000, 50=2.07000, 100=1.98000, 250=1.79000, 500=1.65000, 1000=1.41000, 3000=1.32000, 6000=1.23000, 10000=1.23000 (USD); Supplier 2: Mouser; Manufacturer 2: Hirose; Manufacturer Part Number 2: DF40HC(3.0)-100DS-0.4V(58); Stock 2: 2078; Pricing 2: 1=2.50000, 10=2.40000, 25=2.10000, 50=2.10000, 100=2.00000, 250=1.76000, 500=1.71000, 1000=1.45000, 2000=1.36000, 5000=1.31000, 10000=1.31000 (USD); Supplier Part Number 1: 798-DF40HC30100DS451; Supplier Part Number 2: 798-DF40HC30100DS458
footprint DF40HC-3.0-100DS-0.4V_minpad (3.0MM MATED HEIGHT CONN HDR 100POS 0.4MM SMD GOLD)
pins: 1 GND, 2 GND, 3 CAMA_CLKN, 4 UART_RX, 5 CAMA_CLKP, 6 UART_TX, 7 GND, 8 GND, 9 CAMA_D0_N, 10 USB_RX_P, 11 CAMA_D0_P, 12 USB_RX_N, 13 GND, 14 GND, 15 CAMA_D1_N, 16 USB_D_P, 17 CAMA_D1_P, 18 USB_D_N, 19 GND, 20 GND, 21 CAMA_D2_N, 22 USB_TX_P, 23 CAMA_D2_P, 24 USB_TX_N, 25 GND, 26 GND, 27 CAMA_D3_N, 28 CAMA_CLK, 29 CAMA_D3_P, 30 GND, 31 GND, 32 GND, 33 CAMA_I2C_SDA, 34 CAMA_RST, 35 CAMA_I2C_SCL, 36 CAMA_GPIO_3, 37 PGOOD, 38 CAMA_GPIO_2, 39 _RST, 40 CAMA_GPIO_1, 41 WAKEUP, 42 CAMA_GPIO_0, 43 GND, 44 GND, 45 GND, 46 GND, 47 5V, 48 5V, 49 5V, 50 5V, 51 5V, 52 5V, 53 5V, 54 5V, 55 GND, 56 GND, 57 GND, 58 GND, 59 CAMB_GPIO_3, 60 CAMC_GPIO_3, 61 CAMB_GPIO_2, 62 CAMC_GPIO_2, 63 CAMB_GPIO_1, 64 CAMC_GPIO_1, 65 CAMB_GPIO_0, 66 CAMC_GPIO_0, 67 CAMB_RST, 68 CAMC_RST, 69 GND, 70 GND, 71 GND, 72 GND, 73 CAMB_CLK, 74 CAMC_CLK, 75 GND, 76 GND, 77 CAMB_I2C_SCL, 78 CAMC_I2C_SCL, 79 CAMB_I2C_SDA, 80 CAMC_I2C_SDA, 81 GND, 82 GND, 83 CAMB_D1_N, 84 CAMC_D1_N, 85 CAMB_D1_P, 86 CAMC_D1_P, 87 GND, 88 GND, 89 CAMB_D0_N, 90 CAMC_D0_N, 91 CAMB_D0_P, 92 CAMC_D0_P, 93 GND, 94 GND, 95 CAMB_CLKN, 96 CAMC_CLKN, 97 CAMB_CLKP, 98 CAMC_CLKP, 99 GND, 100 GND

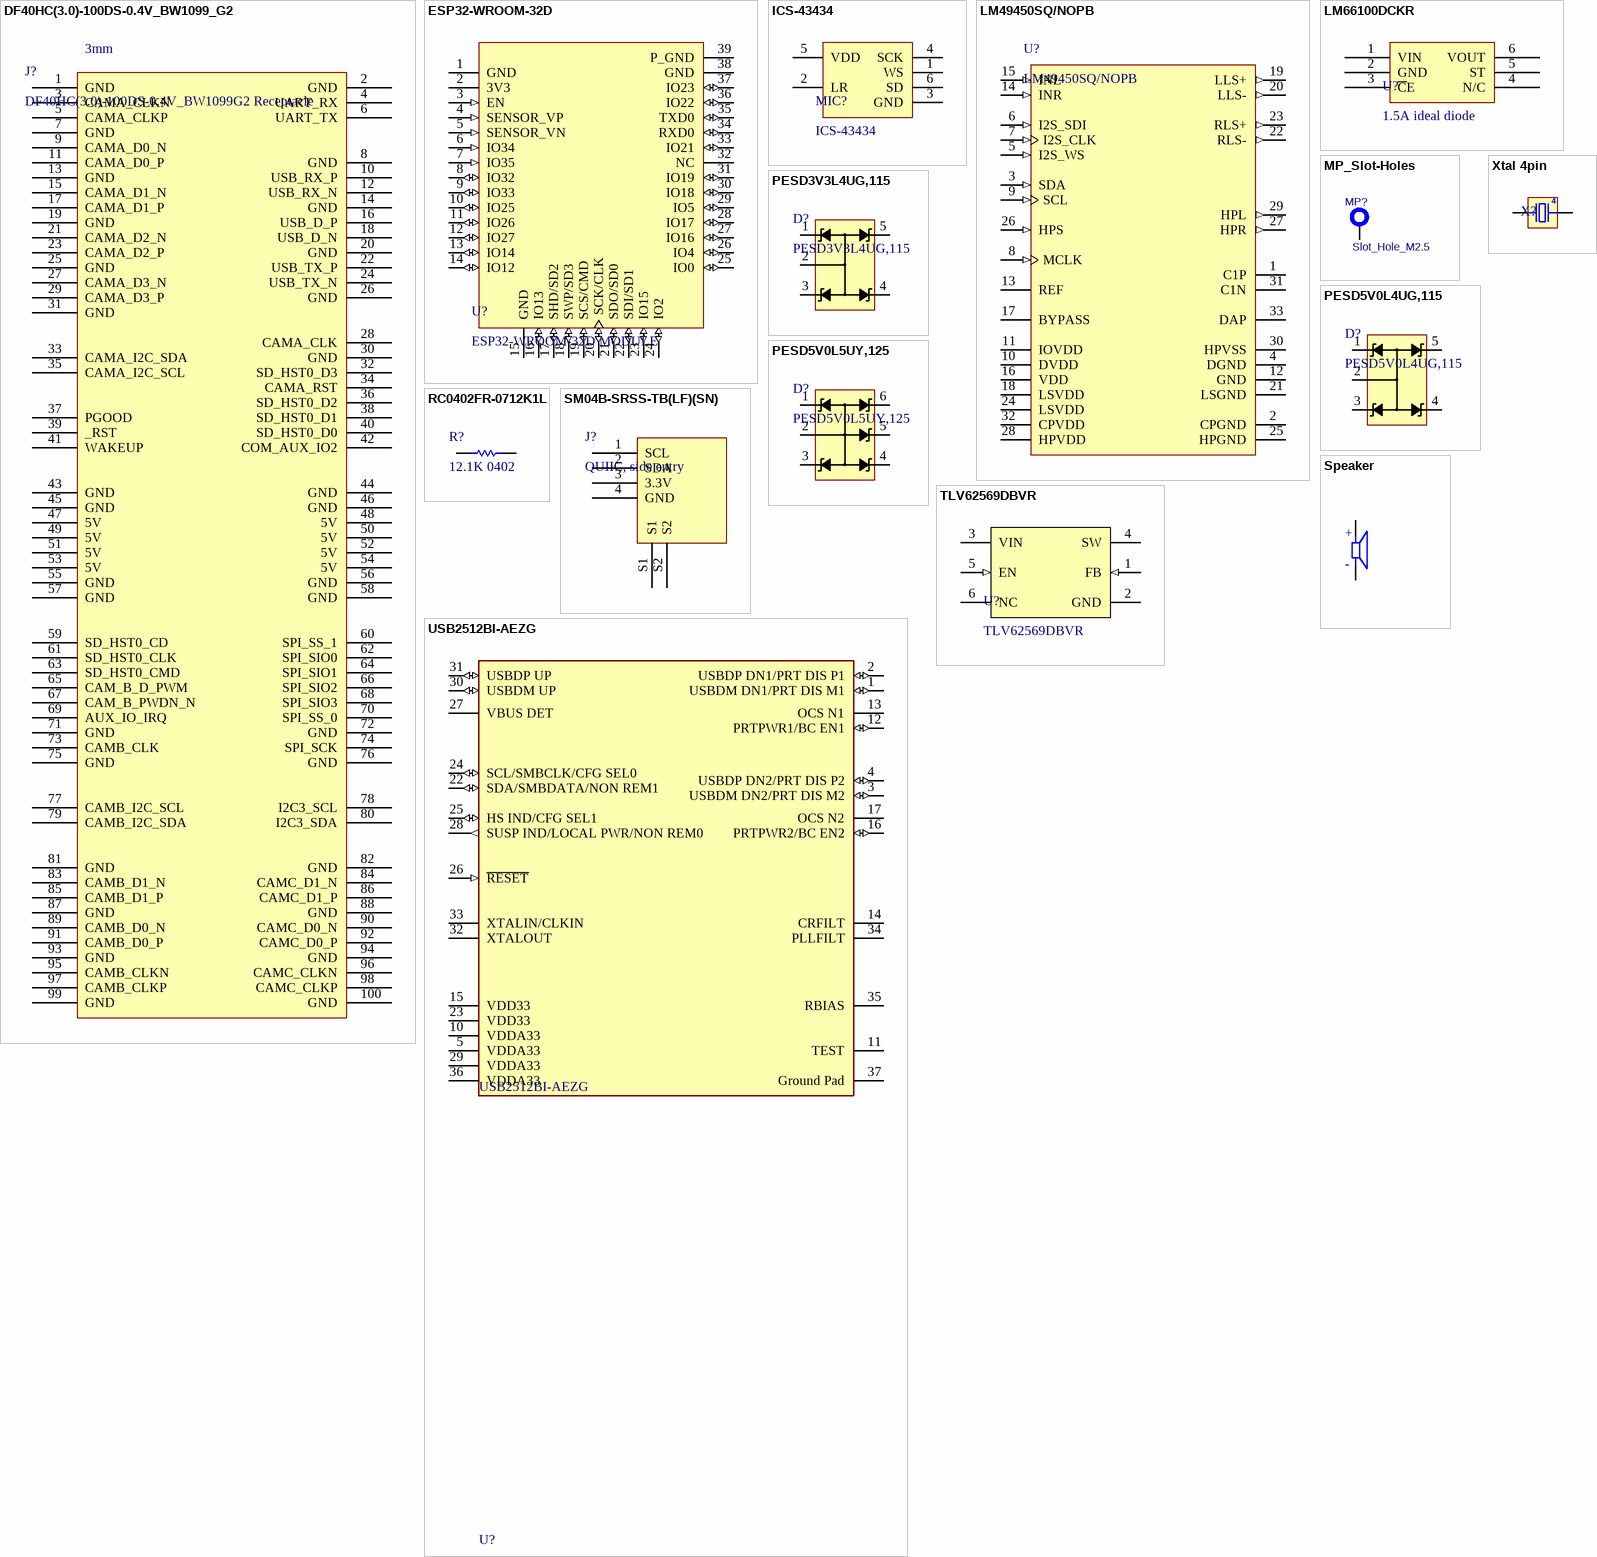
[diagram p2: symbols DF40HC(3.0)-100DS-0.4V_BW1099_G2 to Xtal 4pin]

## DF40HC(3.0)-100DS-0.4V_BW1099_G2
designator J?, comment DF40HC(3.0)-100DS-0.4V_BW1099G2 Receptacle  Mated Stacking Height: 3mm
CONN RCPT 100POS 0.4MM SMD GOLD; Manufacturer 1: Hirose; Manufacturer Part Number 1: DF40HC(3.0)-100DS-0.4V(51; Number of Positions: 100; Pitch: 0.016inch; RoHS: Yes; Mount: Surface Mount; Contact Plating: Gold; Packaging: Tape and Reel; Number of Rows: 2; Package Quantity: 1000; Connector Type: Receptacle; Lead Free: Lead Free; ComponentLink1URL: https://datasheet.ciiva.com/46636/ed-df40-20140305-46636517.pdf?src-supplier=Digi-Key; ComponentLink1Description: https://datasheet.ciiva.com/46636/ed-df40-20140305-46636517.pdf?src-supplier=Digi-Key; ComponentLink2URL: https://datasheet.ciiva.com/18562/ed-df40-20140305-18562189.pdf?src-supplier=Digi-Key; ComponentLink2Description: https://datasheet.ciiva.com/18562/ed-df40-20140305-18562189.pdf?src-supplier=Digi-Key; ComponentLink3URL: https://datasheet.ciiva.com/13559/ed-df40-20140305-13559540.pdf?src-supplier=Mouser; ComponentLink3Description: https://datasheet.ciiva.com/13559/ed-df40-20140305-13559540.pdf?src-supplier=Mouser; ComponentLink4URL: https://datasheet.ciiva.com/18562/ed-df40-20140305-18562462.pdf?src-supplier=Digi-Key; ComponentLink4Description: https://datasheet.ciiva.com/18562/ed-df40-20140305-18562462.pdf?src-supplier=Digi-Key; Supplier 1: Mouser; Stock 1: 2172; Pricing 1: 1=2.54000, 10=2.26000, 25=2.07000, 50=2.07000, 100=1.98000, 250=1.79000, 500=1.65000, 1000=1.41000, 3000=1.32000, 6000=1.23000, 10000=1.23000 (USD); Supplier 2: Mouser; Manufacturer 2: Hirose; Manufacturer Part Number 2: DF40HC(3.0)-100DS-0.4V(58); Stock 2: 2078; Pricing 2: 1=2.50000, 10=2.40000, 25=2.10000, 50=2.10000, 100=2.00000, 250=1.76000, 500=1.71000, 1000=1.45000, 2000=1.36000, 5000=1.31000, 10000=1.31000 (USD); Supplier Part Number 1: 798-DF40HC30100DS451; Supplier Part Number 2: 798-DF40HC30100DS458
footprint DF40HC-3.0-100DS-0.4V_minpad (3.0MM MATED HEIGHT CONN HDR 100POS 0.4MM SMD GOLD)
pins: 1 GND, 2 GND, 3 CAMA_CLKN, 4 UART_RX, 5 CAMA_CLKP, 6 UART_TX, 7 GND, 8 GND, 9 CAMA_D0_N, 10 USB_RX_P, 11 CAMA_D0_P, 12 USB_RX_N, 13 GND, 14 GND, 15 CAMA_D1_N, 16 USB_D_P, 17 CAMA_D1_P, 18 USB_D_N, 19 GND, 20 GND, 21 CAMA_D2_N, 22 USB_TX_P, 23 CAMA_D2_P, 24 USB_TX_N, 25 GND, 26 GND, 27 CAMA_D3_N, 28 CAMA_CLK, 29 CAMA_D3_P, 30 GND, 31 GND, 32 SD_HST0_D3, 33 CAMA_I2C_SDA, 34 CAMA_RST, 35 CAMA_I2C_SCL, 36 SD_HST0_D2, 37 PGOOD, 38 SD_HST0_D1, 39 _RST, 40 SD_HST0_D0, 41 WAKEUP, 42 COM_AUX_IO2, 43 GND, 44 GND, 45 GND, 46 GND, 47 5V, 48 5V, 49 5V, 50 5V, 51 5V, 52 5V, 53 5V, 54 5V, 55 GND, 56 GND, 57 GND, 58 GND, 59 SD_HST0_CD, 60 SPI_SS_1, 61 SD_HST0_CLK, 62 SPI_SIO0, 63 SD_HST0_CMD, 64 SPI_SIO1, 65 CAM_B_D_PWM, 66 SPI_SIO2, 67 CAM_B_PWDN_N, 68 SPI_SIO3, 69 AUX_IO_IRQ, 70 SPI_SS_0, 71 GND, 72 GND, 73 CAMB_CLK, 74 SPI_SCK, 75 GND, 76 GND, 77 CAMB_I2C_SCL, 78 I2C3_SCL, 79 CAMB_I2C_SDA, 80 I2C3_SDA, 81 GND, 82 GND, 83 CAMB_D1_N, 84 CAMC_D1_N, 85 CAMB_D1_P, 86 CAMC_D1_P, 87 GND, 88 GND, 89 CAMB_D0_N, 90 CAMC_D0_N, 91 CAMB_D0_P, 92 CAMC_D0_P, 93 GND, 94 GND, 95 CAMB_CLKN, 96 CAMC_CLKN, 97 CAMB_CLKP, 98 CAMC_CLKP, 99 GND, 100 GND

## ESP32-WROOM-32D
designator U?, comment ESP32-WROOM-32D MODULE
ESP32-WROOM-32D MODULE: Wi-Fi/BT BLE, ESP32-D0WD, SPI Flash, UART, P; Manufacturer 1: Espressif Systems; Frequency: 2.5GHz; Data Rate: 150Mbps; Sensitivity: -98dBm; Interface: I2C,SPI,GPIO,PWM,SDIO,UART; Memory Size: 536KB; Supplier 1: Digi-Key; Manufacturer Part Number 1: ESP32-WROOM-32D; RoHS: Yes; Category: RF Receivers, Transceivers; Stock 1: 2394; Pricing 1: 1=3.80000 (USD); Mount: Surface Mount; Case/Package: SMD/SMT; Min Operating Temperature: -40°C; Max Operating Temperature: 85°C; Packaging: Cut Tape; ComponentLink1URL: https://www.espressif.com/sites/default/files/documentation/esp32-wroom-32d_esp32-wroom-32u_datasheet_en.pdf?src-supplier=Digi-Key; ComponentLink1Description: https://www.espressif.com/sites/default/files/documentation/esp32-wroom-32d_esp32-wroom-32u_datasheet_en.pdf?src-supplier=Digi-Key; Supplier 2: Mouser; Supplier 3: Arrow; Supplier Part Number 3: ESP32-WROOM-32D; Supplier Part Number 2: 356-ESP32WROOM-32D; Supplier Part Number 1: 1904-1023-1-ND
footprint ESP32-WROOM-X (PCB) (ESP32-WROOM modules, with space left for WROVER)
pins: 1 GND (power), 2 3V3 (power), 3 EN (in), 4 SENSOR_VP (in), 5 SENSOR_VN (in), 6 IO34 (in), 7 IO35 (in), 8 IO32 (io), 9 IO33 (io), 10 IO25 (io), 11 IO26 (io), 12 IO27 (io), 13 IO14 (io), 14 IO12 (io), 15 GND (power), 16 IO13 (io), 17 SHD/SD2 (io), 18 SWP/SD3 (io), 19 SCS/CMD (io), 20 SCK/CLK (io), 21 SDO/SD0 (io), 22 SDI/SD1 (io), 23 IO15 (io), 24 IO2 (io), 25 IO0 (io), 26 IO4 (io), 27 IO16 (io), 28 IO17 (io), 29 IO5 (io), 30 IO18 (io), 31 IO19 (io), 32 NC, 33 IO21 (io), 34 RXD0 (io), 35 TXD0 (io), 36 IO22 (io), 37 IO23 (io), 38 GND (power), 39 P_GND (power)

## ICS-43434
designator MIC?
60Hz ~ 20kHz Digital, I2S Microphone MEMS _Silicon_ 1.65V ~ 3.63V Omnidirectional _-26 ±1dB @ 94dB SPL_ Solder Pads; Manufacturer 1: TDK InvenSense; Description: Consumer Circuit; Supplier 1: Digi-Key; RoHS: No; Category: Microphones; Consumer IC Type: CONSUMER CIRCUIT; REACH SVHC: No SVHC; RoHS Compliant: No; ComponentLink1URL: https://datasheet.ciiva.com:443/pdfs/VipMasterIC/IC/IVNC/IVNC-S-A0005715430/IVNC-S-A0005715430-1.pdf?src-supplier=IHS+Markit; ComponentLink1Description: https://datasheet.ciiva.com:443/pdfs/VipMasterIC/IC/IVNC/IVNC-S-A0005715430/IVNC-S-A0005715430-1.pdf?src-supplier=IHS+Markit; ComponentLink2URL: http://www.farnell.com/datasheets/2632666.pdf?src-supplier=Farnell; ComponentLink2Description: http://www.farnell.com/datasheets/2632666.pdf?src-supplier=Farnell; ComponentLink3URL: https://www.invensense.com/wp-content/uploads/2016/02/PB-000018-ICS-43434-v1.1.pdf?src-supplier=Digi-Key; ComponentLink3Description: https://www.invensense.com/wp-content/uploads/2016/02/PB-000018-ICS-43434-v1.1.pdf?src-supplier=Digi-Key; ComponentLink4URL: http://www.farnell.com/datasheets/2632666.pdf?src-supplier=Element14; ComponentLink4Description: http://www.farnell.com/datasheets/2632666.pdf?src-supplier=Element14; ComponentLink5URL: https://www.invensense.com/wp-content/uploads/2016/02/DS-000069-ICS-43434-v1.2.pdf?src-supplier=Digi-Key; ComponentLink5Description: https://www.invensense.com/wp-content/uploads/2016/02/DS-000069-ICS-43434-v1.2.pdf?src-supplier=Digi-Key; ComponentLink6URL: http://www.farnell.com/datasheets/2632666.pdf?src-supplier=Newark; ComponentLink6Description: http://www.farnell.com/datasheets/2632666.pdf?src-supplier=Newark; Supplier Part Number 1: 1428-1066-1-ND; Manufacturer Part Number 1: ICS-43434; Stock 1: 38549; Pricing 1: 1=2,62000, 10=2,16800, 25=2,00160, 50=1,88080, 100=1,76430, 500=1,52950 (USD)
footprint ICS-43434
pins: 1 WS, 2 LR, 3 GND, 4 SCK, 5 VDD, 6 SD

## LM49450SQ/NOPB
designator U?
I2S Input, 2.5W/Channel, Low EMI, Stereo, Class D Audio Sub-System with Ground Referenced Headphone Amplifier, 3D Enhancement, and Headphone Sense, 32-pin LLP, Pb-Free; Manufacturer 1: Texas Instruments; PackageTopMarking: NS*UZXYTT*L49450; PowerWise: N; CompType: Audio IC; PackageDescription: LLP, Quad, 5 x 5 x 0.8mm, 32 Lead, 0.5mm Pitch, No Pullback 3.1 x 3.1 Exposed Pad; PackageReference: RTV0032A; PinCount: 32; Manufacturer Part Number 1: LM49450SQ/NOPB; RoHS: Y; ComponentLink1Description: Datasheet URL; ComponentLink1URL: http://www.ti.com/general/docs/lit/getliterature.tsp?genericPartNumber=LM49450&fileType=pdf; Supplier 1: Digi-Key; Supplier Part Number 1: LM49450SQ/NOPBCT-ND
footprint QFN50P500X500X80_HS-33N (QFN-32, 32-Leads, Body 5,00x5,00mm, Pitch 0,50mm, Thermal Pad 3,10x3,10mm, IPC Medium Density)
pins: 1 C1P, 2 CPGND (power), 3 SDA (in), 4 DGND (power), 5 I2S_WS (in), 6 I2S_SDI (in), 7 I2S_CLK (in), 8 MCLK (in), 9 SCL (in), 10 DVDD (power), 11 IOVDD (power), 12 GND (power), 13 REF, 14 INR (in), 15 INL (in), 16 VDD (power), 17 BYPASS, 18 LSVDD (power), 19 LLS+ (out), 20 LLS- (out), 21 LSGND (power), 22 RLS- (out), 23 RLS+ (out), 24 LSVDD (power), 25 HPGND (power), 26 HPS (in), 27 HPR (out), 28 HPVDD (power), 29 HPL (out), 30 HPVSS (power), 31 C1N, 32 CPVDD (power), 33 DAP (power)

## LM66100DCKR
designator U?, comment 1.5A ideal diode
IC OR CTRLR IDEAL DIODE SC70-6; Manufacturer 1: Texas Instruments; Manufacturer Part Number 1: LM66100DCKR; Supplier 1: Digi-Key; RoHS: No; Category: Integrated Circuits (ICs); Stock 1: 8042; Pricing 1: 1=0.41000, 10=0.32900, 25=0.30120, 100=0.20300, 250=0.16800, 500=0.15400, 1000=0.11550 (USD); Supplier 2: Digi-Key; Supplier 3: Mouser; Supplier 4: Arrow; Supplier Part Number 1: 296-53541-1-ND; Supplier Part Number 3: 595-LM66100DCKR; Supplier Part Number 2: 296-53541-2-ND; Supplier Part Number 4: LM66100DCKR
footprint LM66100DCKR (SOT23, 6-Leads, Body 2.00x2.10mm, Pitch 0.65mm, IPC Medium Density)
pins: 1 VIN "Device input", 2 GND "Device ground", 3 ~{C}E "Active-low chip enable. Can be connected to VOUT for reverse current protection. Do not", 4 N/C "Not internally connected, can be tied to GND or left floating.", 5 ST "Active-low open-drain output, pulled low when the chip is disabled. Hi-Z when the chip is", 6 VOUT "Device output"

## MP_Slot-Holes
designator MP?  (no BOM)
=CurrentFootprint; B - Value: Not a Part; A - Level: 0
footprint Slot_Hole_M2.5
footprint Slot_Hole_M2.5_Narrow
pins: 1

## PESD3V3L4UG,115
designator D?
TVS DIODE 3V3 8V 5TSSOP; Manufacturer 1: Nexperia; Supplier 1: Digi-Key; Manufacturer Part Number 1: PESD3V3L4UG,115; Category: ESD and Circuit Protection ICs; ComponentLink1URL: https://www.mouser.com/ds/2/302/PESDXL5UF_V_Y-63173.pdf?src-supplier=Mouser; ComponentLink1Description: https://www.mouser.com/ds/2/302/PESDXL5UF_V_Y-63173.pdf?src-supplier=Mouser; Supplier Part Number 1: 1727-3827-2-ND
footprint PESD3V3L4UG,115 (5-TSSOP, SC-88, SOT-363)
pins: 1, 2, 3, 4, 5

## PESD5V0L4UG,115
designator D?
TVS DIODE 5V 12V 5TSSOP; Manufacturer 1: Nexperia; Supplier 1: Mouser; Manufacturer Part Number 1: PESD5V0L4UG,115; Category: ESD and Circuit Protection ICs; ComponentLink1URL: https://www.mouser.com/ds/2/302/PESDXL5UF_V_Y-63173.pdf?src-supplier=Mouser; ComponentLink1Description: https://www.mouser.com/ds/2/302/PESDXL5UF_V_Y-63173.pdf?src-supplier=Mouser; Supplier Part Number 1: 771-PESD5V0L4UG-T/R
footprint PESD3V3L4UG,115 (5-TSSOP, SC-88, SOT-363)
pins: 1, 2, 3, 4, 5

## PESD5V0L5UY,125
designator D?
TVS DIODE 5V 12V 6TSSOP; Manufacturer 1: Nexperia; Supplier 1: Digi-Key; Manufacturer Part Number 1: PESD5V0L5UY,125; RoHS: No; Category: ESD and Circuit Protection ICs; Stock 1: 13001; Pricing 1: 1=0.36000, 10=0.27500, 25=0.24760, 100=0.13050, 250=0.12916, 500=0.11566, 1000=0.09000 (USD); ComponentLink1URL: https://www.mouser.com/ds/2/302/PESDXL5UF_V_Y-63173.pdf?src-supplier=Mouser; ComponentLink1Description: https://www.mouser.com/ds/2/302/PESDXL5UF_V_Y-63173.pdf?src-supplier=Mouser; Supplier 2: Digi-Key; Supplier 3: Arrow; Supplier 4: Mouser; Supplier Part Number 3: PESD5V0L5UY,125; Supplier Part Number 2: 1727-5798-2-ND; Supplier Part Number 1: 1727-5798-1-ND; Supplier Part Number 4: 771-PESD5V0L5UY,125
footprint PESD5V0L5UY,125 (6-TSSOP, SC-88, SOT-363)
pins: 1, 2, 3, 4, 5, 6

## RC0402FR-0712K1L
designator R?, comment 12.1K 0402
RES SMD 12.1K OHM 1% 1/16W 0402; Manufacturer 1: Yageo; Manufacturer Part Number 1: RC0402FR-0712K1L; Additional Feature: LASER TRIMMABLE; Rated Power Dissipation (P): 62.5mW; Rated Temperature: 70°C; Resistance: 12.1kR; Temperature Coefficient: 100ppm/°C; Working Voltage: 50V; Package Height: 0.35mm; Package Length: 1mm; Package Width: 0.5mm; Supplier 1: Avnet; RoHS: Yes; Category: Chip SMD Resistors; Mount: Surface Mount; Number of Pins: 2; Package Shape: Rectangular; Size Code: 0402; Terminal Finish: Nickel; Min Operating Temperature: -55°C; Max Operating Temperature: 155°C; Tolerance: 1%; JESD-609 Code: e3; Resistor Type: FIXED RESISTOR; Construction: Chip; Package Style: SMTMeter; Packaging: Tape and Reel; Technology: METAL GLAZE/THICK FILM; Termination: Wraparound; REACH SVHC: Yes; RoHS Compliant: Yes; ComponentLink1URL: https://datasheet.ciiva.com:443/pdfs/VipMasterIC/IC/YAGO/YAGO-S-A0008145938/YAGO-S-A0008145938-1.pdf?src-supplier=IHS+Markit; ComponentLink1Description: https://datasheet.ciiva.com:443/pdfs/VipMasterIC/IC/YAGO/YAGO-S-A0008145938/YAGO-S-A0008145938-1.pdf?src-supplier=IHS+Markit; ComponentLink2URL: https://datasheet.ciiva.com/11808/0900766b80d8d3b8-11808222.pdf?src-supplier=RSComponents; ComponentLink2Description: https://datasheet.ciiva.com/11808/0900766b80d8d3b8-11808222.pdf?src-supplier=RSComponents; ComponentLink3URL: https://datasheet.ciiva.com/2453/pyu-r-int-thick-7-2453488.pdf?src-supplier=Digi-Key; ComponentLink3Description: https://datasheet.ciiva.com/2453/pyu-r-int-thick-7-2453488.pdf?src-supplier=Digi-Key; ComponentLink4URL: https://datasheet.ciiva.com/2453/pyu-r-int-thick-7-2453489.pdf?src-supplier=Digi-Key; ComponentLink4Description: https://datasheet.ciiva.com/2453/pyu-r-int-thick-7-2453489.pdf?src-supplier=Digi-Key; ComponentLink5URL: https://datasheet.ciiva.com/7983/1018594-7983493.pdf?src-supplier=Element14; ComponentLink5Description: https://datasheet.ciiva.com/7983/1018594-7983493.pdf?src-supplier=Element14; ComponentLink6URL: https://datasheet.ciiva.com/2453/pyu-r-int-thick-7-2453487.pdf?src-supplier=Digi-Key; ComponentLink6Description: https://datasheet.ciiva.com/2453/pyu-r-int-thick-7-2453487.pdf?src-supplier=Digi-Key; ComponentLink7URL: https://datasheet.ciiva.com/17070/pyu-rc0402-51-rohs-l-6-r-17070757.pdf?src-supplier=Future+Electronics; ComponentLink7Description: https://datasheet.ciiva.com/17070/pyu-rc0402-51-rohs-l-6-r-17070757.pdf?src-supplier=Future+Electronics; Supplier Part Number 1: RC0402FR-0712K1L; Stock 1: 60000; Pricing 1: 10000=0,00090, 20000=0,00088, 40000=0,00086, 60000=0,00084, 80000=0,00081, 100000=0,00079, 1000000=0,00077 (USD)
footprint RESC0402(1005)_L (Chip Resistor, Body 1.0x0.5mm, IPC High Density)
footprint RESC0402(1005)_M (Chip Resistor, Body 1.0x0.5mm, IPC Low Density)
footprint RESC0402(1005)_N (Chip Resistor, Body 1.0x0.5mm, IPC Medium Density)
pins: 1, 2